# Altium footprint library XFLGA-3.PcbLib: 1 footprints
Each footprint in its own frame and in the unit in brackets; x right, y up, seen from the top. Pads: shape width x height; smd on the part's side, far side on the other; paste and mask are expansions set on the pad; w line width, h text height; cw(c..) or ccw(c..) is an arc to the next point about the centre after c.
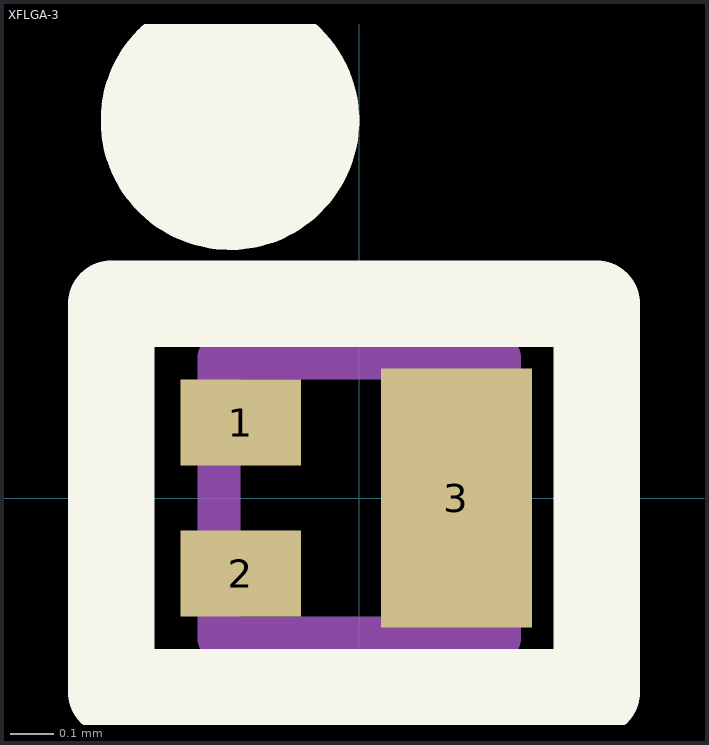
[diagram p0: the footprint, top view; thin cyan lines are the x and y axes]

## XFLGA-3 [mm]
pads (3):
  rect 0.28x0.2 smd paste+0 mask+0.05: 1(-0.275,0.175) 2(-0.275,-0.175)
  rect 0.35x0.6 smd paste+0 mask+0.05: 3(0.225,0)
Top Overlay:
  circle w0.3: c-0.3,0.875 r0.15
  lines w0.2: -0.575,-0.45 -0.575,0.45 0.55,0.45 0.55,-0.45 -0.575,-0.45
Top Assembly:
  circle w0.2: c-0.3,0.875 r0.1
  lines w0.1: -0.325,-0.325 -0.325,0.325 0.325,0.325 0.325,-0.325 -0.325,-0.325
  text "'.Designator'" at -1.4,-1.275 h0.7
3D body "3-XFLGA.stp": height 0.4, standoff 0, extent -0.325,-0.325 0.325,0.325